# EAGLE library part 1432УД12 (library operational-amplifier)
АЕЯР.431100.280-11 ТУ 1432УД11/12 – одно и двукханальные операционные усилители с токовой обратной связью, обеспечивающие высокую динамическую точность в широком диапазоне частот и коэффициентов усиления, устойчиво работающие с коэффициентами усиления вплоть до Ку=+1. Достоинства: ► Время установления 20 нс ► Выходной ток 79 мА ► Ток потребления 11 мА ► Скорость нарастания 1100 В/мкс ► Диапазон рабочих температур -60…+85 °С Параметр, единица измерения Условия Норма параметра min. тип. max. Максимальное выходное напряжение, В 2,7 3,9 – Напряжение смещения, мВ – 1,1 9 Температурный дрейф напряжения смещения, мкВ/°С – 2,5 – Ток потребления, мА – 11 15 Входной ток по неинвертирующему входу, мкА – 7 10 Входной ток по инвертирующему входу, мкА – 11 35 Температурный дрейф входных токов, нА/°С – 28 – Коэффициент преобразования, В/мА 200 940 – Выходной ток, мА 50 79 – Коэффициент ослабления синфазного сигнала, дБ – 57 – Коэффициент влияния изменения Uп на Uсм ОУ, дБ – 53 – Верхняя граничная частота полосы пропускания, МГц Ку=+1 350 570 – Ку=+2 650 1060 – Скорость нарастания выходного напряжения, В/мкс Uвых=4 В 800 1100 – Время установления (до уровня 0,1), нс – 20 – Коэффициент гармоник, дБ – -73 – Нормированная ЭДС шума, нВ/√Гц – 3,0 – Нормированный входной ток шума, пА/√Гц – 18 – Входное сопротивление (дифференциальное), кОм – 100 – Выходное сопротивление, Ом – 15 – Входная емкость, пФ – 2,5 – Коэффициент разделения каналов, дБ – 65 – Производитель: ОАО «НПП «ПУЛЬСАР», г. Москва.
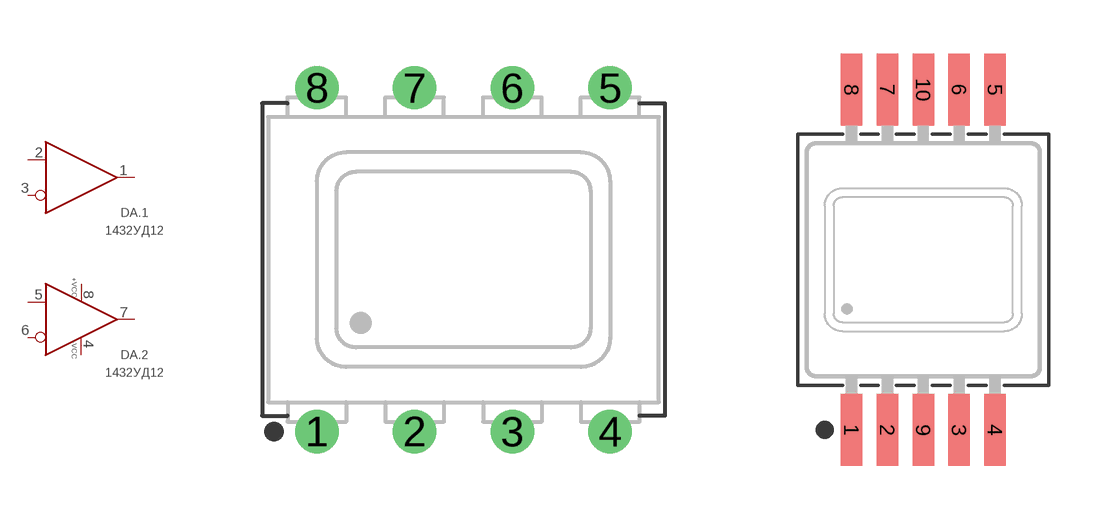
[diagram p5: symbol with the pads of 2101.8-7; footprints 2101.8-7, H02.8-1B]

Designator prefix DA; gates .1=OPERATIONAL-AMPLIFIER-SIMPLE .2=OPERATIONAL-AMPLIFIER-SIMPLE G$3=POWER_2

## 1432УД12Р  [2101.8-7]
1  .1:OUT  out
2  .1:IN  in
3  .1:!IN  in
4  G$3:-VCC  pwr
5  .2:IN  in
6  .2:!IN  in
7  .2:OUT  out
8  G$3:+VCC  pwr

## 1432УД12У  [H02.8-1B]
Pads as for 2101.8-7

## Footprint 2101.8-7 (pad centres in mm)
drill 0.6: 1 -3.75,-4.4; 2 -1.25,-4.4; 3 1.25,-4.4; 4 3.75,-4.4; 5 3.75,4.4; 6 1.25,4.4; 7 -1.25,4.4; 8 -3.75,4.4

## Footprint H02.8-1B (pad centres in mm)
smd 0.6 x 2: 1 -2,-4.75; 2 -1,-4.75; 3 1,-4.75; 4 2,-4.75; 5 2,4.75; 6 1,4.75; 7 -1,4.75; 8 -2,4.75; 9 0,-4.75; 10 0,4.75